# EAGLE library part 691411710007B (library WR-TBL Spring Clamp)
WR-TBL Serie 411B - 5.00 mm Screwless Horizontal Entry - 2.0 mm 2 Wires KIND PROPERTIES Pitch 5 mm MATERIAL PROPERTIES Insulator Material PA66 Insulator Flammability Rating UL94 V-0 Contact Material Brass Contact Plating Tin Wire Guard Material Stainless Steel GENERAL INFORMATION Operating Temperature -40 up to +105 °C Compliance RoHS ELECTRICAL PROPERTIES R cULus 10 A Working Voltage [cULus] 300 V (AC) Withstanding Voltage [cULus] 2000 V (AC) Contact Resistance [cULus] 20 mΩ Mechanical Properties Wire Strip Length 9 up to 10 (mm) Wire Properties Solid Wire Section (AWG) 14 to 20 (AWG) Solid Wire Section (Metric) 2.08 to 0.518 (mm²) Stranded Wire Section (AWG) 14 to 20 (AWG) Stranded Wire Section (Metric) 2.08 to 0.518 (mm²) CERTIFICATION cULus Approval E315414 Packaging Properties Packaging Box Details see: www.we-online.com/en/components/products/TBL_5_00_411B_SCREWLESS_HORIZONTAL_ENTRY_2_0MM2_WIRES_6914117100XXB/ Updated by Ella Wu 2019-12-31 2019(C) Würth Elektronik
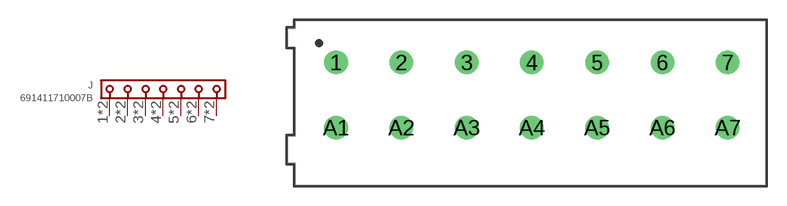
[diagram p46: symbol with the pads of 691411710007B; footprint 691411710007B]

Designator prefix J

## 691411710007B (APPLICATION: Screwless; DATASHEET: https://www.we-online.com/redexpert/spec/691411710007B?ae; IR-UL: 10A; MODULARITY: No; MOUNT: THT; PART-NUMBER: 691411710007B; PINS: 7; PITCH: 5mm; TYPE: Horizontal; VALUE: 691411710007B; WIRE: 14 to 20 (AWG) 2.08 to 0.518 (mm²); WORKING-VOLTAGE-UL: 300V (AC))  [691411710007B]
1  1  pas
2  2  pas
3  3  pas
4  4  pas
5  5  pas
6  6  pas
7  7  pas
A1  1  pas
A2  2  pas
A3  3  pas
A4  4  pas
A5  5  pas
A6  6  pas
A7  7  pas

## Footprint 691411710007B (pad centres in mm)
WR-TBL Serie 411B - 5.00 mm Screwless Horizontal Entry - 2.0 mm 2 Wires Max Height = 15.25mm , Pitch 5mm , 7pins
drill 1.2: 1 -15,2.5; 2 -10,2.5; 3 -5,2.5; 4 0,2.5; 5 5,2.5; 6 10,2.5; 7 15,2.5; A1 -15,-2.5; A2 -10,-2.5; A3 -5,-2.5; A4 0,-2.5; A5 5,-2.5; A6 10,-2.5; A7 15,-2.5